# EAGLE library part LT1966CMS8 (library GueLogics)
Precision Micropower, DS RMS-to-DC Converter
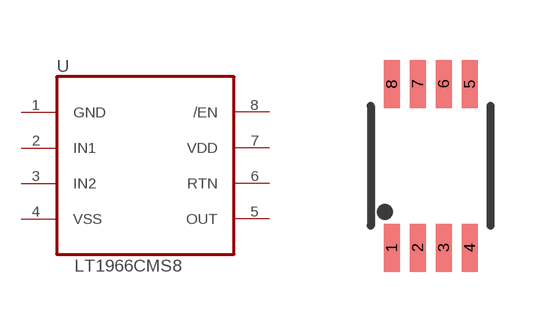
[diagram p1: symbol with the pads of MSOP8; footprint MSOP8]

Designator prefix -

## LT1966CMS8  [MSOP8]
1  GND  pwr
2  IN1  in
3  IN2  in
4  VSS  pwr
5  OUT  out
6  RTN  pas
7  VDD  pwr
8  /EN  in

## Footprint MSOP8 (pad centres in mm)
smd 0.4 x 1.2: 1 -0.975,-2.05; 2 -0.325,-2.05; 3 0.325,-2.05; 4 0.975,-2.05; 5 0.975,2.05; 6 0.325,2.05; 7 -0.325,2.05; 8 -0.975,2.05